# Altium integrated library Linear Technology PMIC-Switching Reg LTC1174-LTC3901.IntLib: 2647 symbols (part 299 of 310)
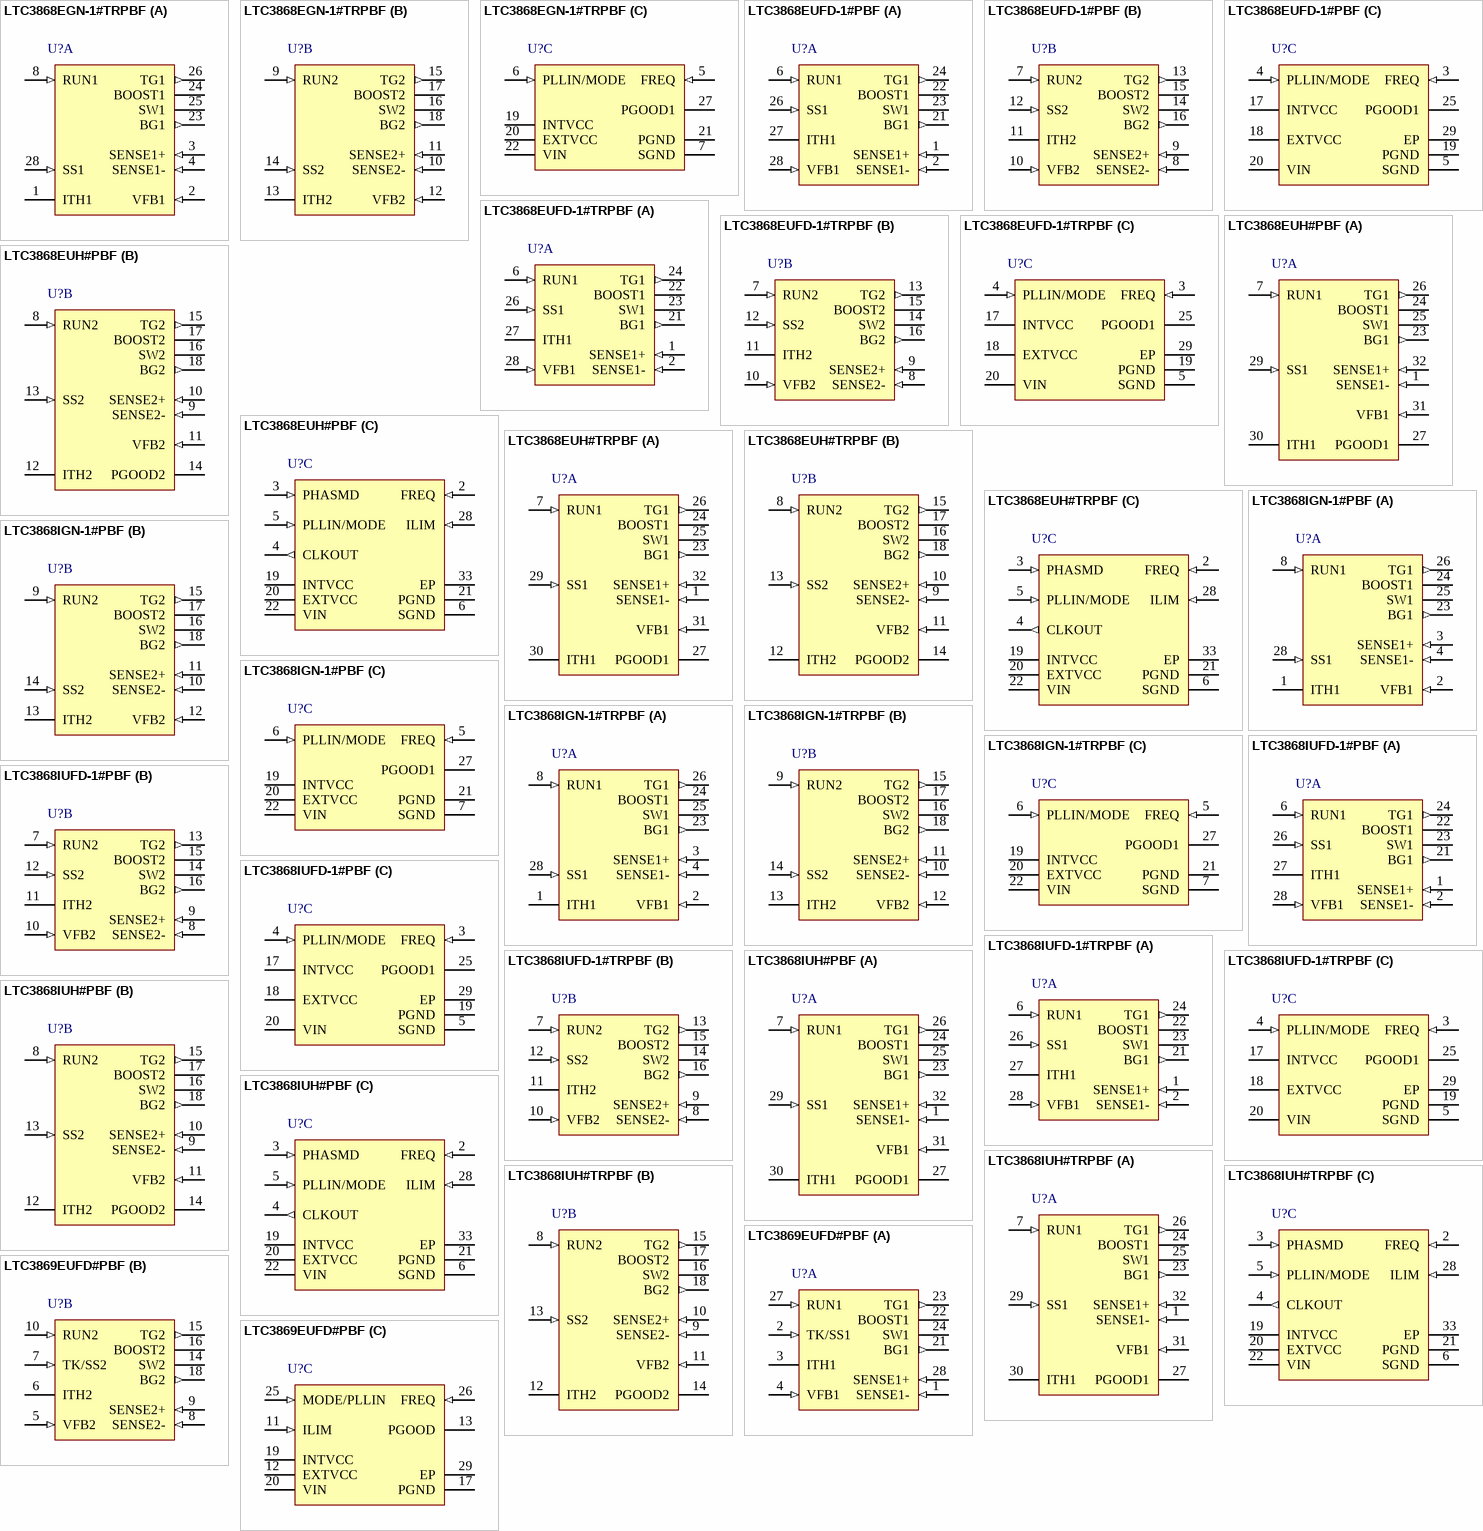
[diagram p297: symbols LTC3868EGN-1#TRPBF to LTC3869EUFD#PBF]

## LTC3868EUH#TRPBF
designator U?
Low IQ, Dual 2-Phase Synchronous Step-Down Controller, 32-pin QFN (UH-32), -40 to 85 degC, Pb-Free, Tape and Reel; Manufacturer: Linear Technology; PartNumber: LTC3868EUH#TRPBF; Number of Outputs: 2; PackageReference: UH-32; PackageDescription: 32-Pin Plastic QFN, Body 5 x 5 mm, Pitch 0.5 mm; Supplier 1: Digi-Key; Supplier Part Number 1: LTC3868EUH#TRPBF-ND; RoHS: TRUE; Code_JEDEC: MO-220
footprint LT-UH-32_N (QFN, 32-Leads, Body 5.1x5.1mm, Pitch 0.5mm, Thermal Pad 3.45X3.45mm, IPC Medium Density)
footprint LT-UH-32_L (QFN, 32-Leads, Body 5.1x5.1mm, Pitch 0.5mm, Thermal Pad 3.45X3.45mm, IPC High Density)
footprint LT-UH-32_M (QFN, 32-Leads, Body 5.1x5.1mm, Pitch 0.5mm, Thermal Pad 3.45X3.45mm, IPC Low Density)
part A pins: 1 SENSE1- (in) "The (-) Input to the Differential Current Comparators. When greater than INTVCC - 0.5V, the SENSE- pin supplies current to the current comparator.", 7 RUN1 (in), 23 BG1 (out) "High Current Gate Drives for Bottom (Synchronous) N-Channel MOSFETs. Voltage swing at these pins is from ground to INTVCC.", 24 BOOST1 "Bootstrapped Supplies to the Topside Floating Drivers. Capacitors are connected between the BOOST and SW pins and Schottky diodes are tied between the BOOST and INTVCC pins. Voltage swing at the BOOST pins is from INTVCC to (See Datasheet)", 25 SW1 "Switch Node Connections to Inductors.", 26 TG1 (out) "High Current Gate Drives for Top N-Channel MOSFETs. These are the outputs of floating drivers with a voltage swing equal to INTVCC - 0.5V superimposed on the switch node voltage SW.", 27 PGOOD1 (oc) "Open-Drain Logic Output. PGOOD1,2 is pulled to ground when the voltage on the VFB1,2 pin is not within +/-10% ofits set point.", 29 SS1 (in), 30 ITH1 "Error Amplifier Outputs and Switching Regulator Compensation Points. Each associated channel’s current comparator trip point increases with this control voltage.", 31 VFB1 (in) "Receives the remotely sensed feedback voltage for each controller from an external resistive divider across the output.", 32 SENSE1+ (in)
part B pins: 8 RUN2 (in), 9 SENSE2- (in) "The (-) Input to the Differential Current Comparators. When greater than INTVCC - 0.5V, the SENSE- pin supplies current to the current comparator.", 10 SENSE2+ (in), 11 VFB2 (in) "Receives the remotely sensed feedback voltage for each controller from an external resistive divider across the output.", 12 ITH2 "Error Amplifier Outputs and Switching Regulator Compensation Points. Each associated channel’s current comparator trip point increases with this control voltage.", 13 SS2 (in), 14 PGOOD2 (oc) "Open-Drain Logic Output. PGOOD1,2 is pulled to ground when the voltage on the VFB1,2 pin is not within +/-10% ofits set point.", 15 TG2 (out) "High Current Gate Drives for Top N-Channel MOSFETs. These are the outputs of floating drivers with a voltage swing equal to INTVCC - 0.5V superimposed on the switch node voltage SW.", 16 SW2 "Switch Node Connections to Inductors.", 17 BOOST2 "Bootstrapped Supplies to the Topside Floating Drivers. Capacitors are connected between the BOOST and SW pins and Schottky diodes are tied between the BOOST and INTVCC pins. Voltage swing at the BOOST pins is from INTVCC to (See Datasheet)", 18 BG2 (out) "High Current Gate Drives for Bottom (Synchronous) N-Channel MOSFETs. Voltage swing at these pins is from ground to INTVCC."
part C pins: 2 FREQ (in), 3 PHASMD (in) "Control input to phase selector which determines the phase relationships between controller 1, controller 2 and the CLKOUT signal. Pulling this pin to ground forces TG2 and CLKOUT to be out of phase 180degrees and 60degrees (See Datasheet)", 4 CLKOUT (out) "Output clock signal available to daisychain other controller ICs for additional MOSFET driver stages/phases. The output levels swing from INTVCC to ground.", 5 PLLIN/MODE (in), 6 SGND (power) "Small-signal ground common to both controllers, must be routed separately from high current grounds to the common (-) terminals of the CIN capacitors. The exposed pad must be soldered to the PCB for rated thermal performance.", 19 INTVCC (power) "Output of the Internal Linear Low Dropout Regulator. The driver and control circuits are powered from this voltage source. Must be decoupled to power ground with a minimum of 4.7uF ceramic or other low ESR capacitor. Do not (See Datasheet)", 20 EXTVCC (power) "External Power Input to an Internal LDO Connected to INTVCC. This LDO supplies INTVCC power, bypassing the internal LDO powered from VIN whenever EXTVCC is higher than 4.7V. See EXTVCC Connection in the Applications (See Datasheet)", 21 PGND (power) "Driver Power Ground. Connects to the sources of bottom (synchronous) N-channel MOSFETs and the (-) terminal(s) of CIN.", 22 VIN (power), 28 ILIM (in) "Current Comparator Sense Voltage Range Inputs. Tying this pin to SGND, FLOAT or INTVCC sets the maximum current sense threshold to one of three different levels for both comparators.", 33 EP (power)

## LTC3868IGN-1#PBF
designator U?
Low IQ, Dual 2-Phase Synchronous Step-Down Controller, 28-pin SOP (GN-28), -40 to 85 degC, Pb-Free; Manufacturer: Linear Technology; PartNumber: LTC3868IGN-1#PBF; Number of Outputs: 2; PackageReference: GN-28; PackageDescription: 28-Pin Plastic SSOP, Body 9.9 x 3.9 mm, Pitch 0.635 mm; Supplier 1: Digi-Key; Supplier Part Number 1: LTC3868IGN-1#PBF-ND; RoHS: TRUE
footprint LT-GN-28_N (SOP, 28-Leads, Body 9.98x3.98mm, Pitch 0.635mm, IPC Medium Density)
footprint LT-GN-28_L (SOP, 28-Leads, Body 9.98x3.98mm, Pitch 0.635mm, IPC High Density)
footprint LT-GN-28_M (SOP, 28-Leads, Body 9.98x3.98mm, Pitch 0.635mm, IPC Low Density)
part A pins: 1 ITH1 "Error Amplifier Outputs and Switching Regulator Compensation Points. Each associated channel’s current comparator trip point increases with this control voltage.", 2 VFB1 (in) "Receives the remotely sensed feedback voltage for each controller from an external resistive divider across the output.", 3 SENSE1+ (in) "The (+) input to the differential current comparators are normally connected to DCR sensing networks or current sensing resistors. The ITH pin voltage and controlled offsets between the SENSE- and SENSE+ pins in conjunction (See Datasheet)", 4 SENSE1- (in) "The (-) Input to the Differential Current Comparators. When greater than INTVCC - 0.5V, the SENSE- pin supplies current to the current comparator.", 8 RUN1 (in) "Digital Run Control Inputs for Each Controller. Forcing either of these pins below 1.26V shuts down that controller. Forcing both of these pins below 0.7V shuts down the entire LTC3868-1, reducing quiescent current to (See Datasheet)", 23 BG1 (out) "High Current Gate Drives for Bottom (Synchronous) N-Channel MOSFETs. Voltage swing at these pins is from ground to INTVCC.", 24 BOOST1 "Bootstrapped Supplies to the Topside Floating Drivers. Capacitors are connected between the BOOST and SW pins and Schottky diodes are tied between the BOOST and INTVCC pins. Voltage swing at the BOOST pins is from INTVCC to (See Datasheet)", 25 SW1 "Switch Node Connections to Inductors.", 26 TG1 (out) "High Current Gate Drives for Top N-Channel MOSFETs. These are the outputs of floating drivers with a voltage swing equal to INTVCC - 0.5V superimposed on the switch node voltage SW.", 28 SS1 (in) "External Soft-Start Input. The LTC3868-1 regulates the VFB1,2 voltage to the smaller of 0.8V or the voltage on the SS1,2 pin. An internal 1uA pull-up current source is connected to this pin. A capacitor to ground at this pin (See Datasheet)"
part B pins: 9 RUN2 (in) "Digital Run Control Inputs for Each Controller. Forcing either of these pins below 1.26V shuts down that controller. Forcing both of these pins below 0.7V shuts down the entire LTC3868-1, reducing quiescent current to (See Datasheet)", 10 SENSE2- (in) "The (-) Input to the Differential Current Comparators. When greater than INTVCC - 0.5V, the SENSE- pin supplies current to the current comparator.", 11 SENSE2+ (in) "The (+) input to the differential current comparators are normally connected to DCR sensing networks or current sensing resistors. The ITH pin voltage and controlled offsets between the SENSE- and SENSE+ pins in conjunction (See Datasheet)", 12 VFB2 (in) "Receives the remotely sensed feedback voltage for each controller from an external resistive divider across the output.", 13 ITH2 "Error Amplifier Outputs and Switching Regulator Compensation Points. Each associated channel’s current comparator trip point increases with this control voltage.", 14 SS2 (in) "External Soft-Start Input. The LTC3868-1 regulates the VFB1,2 voltage to the smaller of 0.8V or the voltage on the SS1,2 pin. An internal 1uA pull-up current source is connected to this pin. A capacitor to ground at this pin (See Datasheet)", 15 TG2 (out) "High Current Gate Drives for Top N-Channel MOSFETs. These are the outputs of floating drivers with a voltage swing equal to INTVCC - 0.5V superimposed on the switch node voltage SW.", 16 SW2 "Switch Node Connections to Inductors.", 17 BOOST2 "Bootstrapped Supplies to the Topside Floating Drivers. Capacitors are connected between the BOOST and SW pins and Schottky diodes are tied between the BOOST and INTVCC pins. Voltage swing at the BOOST pins is from INTVCC to (See Datasheet)", 18 BG2 (out) "High Current Gate Drives for Bottom (Synchronous) N-Channel MOSFETs. Voltage swing at these pins is from ground to INTVCC."
part C pins: 5 FREQ (in) "The Frequency Control Pin for the Internal VCO. Connecting this pin to GND forces the VCO to a fixed low frequency of 350kHz. Connecting this pin to INTVCC forces the VCO to a fixed high frequency of 535kHz. Other (See Datasheet)", 6 PLLIN/MODE (in) "External Synchronization Input to Phase Detector and Forced Continuous Mode Input. When an external clock is applied to this pin, the phase-locked loop will force the rising TG1 signal to be synchronized with the rising edge (See Datasheet)", 7 SGND (power) "Small-signal ground common to both controllers, must be routed separately from high current grounds to the common (-) terminals of the CIN capacitors. The exposed pad (QFN only) must be soldered to the PCB for rated thermal (See Datasheet)", 19 INTVCC (power) "Output of the Internal Linear Low Dropout Regulator. The driver and control circuits are powered from this voltage source. Must be decoupled to power ground with a minimum of 4.7uF ceramic or other low ESR capacitor. Do not (See Datasheet)", 20 EXTVCC (power) "External Power Input to an Internal LDO Connected to INTVCC. This LDO supplies INTVCC power, bypassing the internal LDO powered from VIN whenever EXTVCC is higher than 4.7V. See EXTVCC Connection in the Applications (See Datasheet)", 21 PGND (power) "Driver Power Ground. Connects to the sources of bottom (synchronous) N-channel MOSFETs and the (-) terminal(s) of CIN.", 22 VIN (power) "Main Supply Pin. A bypass capacitor should be tied between this pin and the signal ground pin.", 27 PGOOD1 (oc) "Open-Drain Logic Output. PGOOD1 is pulled to ground when the voltage on the VFB1 pin is not within +/-10% of its set point."

## LTC3868IGN-1#TRPBF
designator U?
Low IQ, Dual 2-Phase Synchronous Step-Down Controller, 28-pin SOP (GN-28), -40 to 85 degC, Pb-Free, Tape and Reel; Manufacturer: Linear Technology; PartNumber: LTC3868IGN-1#TRPBF; Number of Outputs: 2; PackageReference: GN-28; PackageDescription: 28-Pin Plastic SSOP, Body 9.9 x 3.9 mm, Pitch 0.635 mm; Supplier 1: Digi-Key; Supplier Part Number 1: LTC3868IGN-1#TRPBF-ND; RoHS: TRUE
footprint LT-GN-28_N (SOP, 28-Leads, Body 9.98x3.98mm, Pitch 0.635mm, IPC Medium Density)
footprint LT-GN-28_L (SOP, 28-Leads, Body 9.98x3.98mm, Pitch 0.635mm, IPC High Density)
footprint LT-GN-28_M (SOP, 28-Leads, Body 9.98x3.98mm, Pitch 0.635mm, IPC Low Density)
part A pins: 1 ITH1 "Error Amplifier Outputs and Switching Regulator Compensation Points. Each associated channel’s current comparator trip point increases with this control voltage.", 2 VFB1 (in) "Receives the remotely sensed feedback voltage for each controller from an external resistive divider across the output.", 3 SENSE1+ (in) "The (+) input to the differential current comparators are normally connected to DCR sensing networks or current sensing resistors. The ITH pin voltage and controlled offsets between the SENSE- and SENSE+ pins in conjunction (See Datasheet)", 4 SENSE1- (in) "The (-) Input to the Differential Current Comparators. When greater than INTVCC - 0.5V, the SENSE- pin supplies current to the current comparator.", 8 RUN1 (in) "Digital Run Control Inputs for Each Controller. Forcing either of these pins below 1.26V shuts down that controller. Forcing both of these pins below 0.7V shuts down the entire LTC3868-1, reducing quiescent current to (See Datasheet)", 23 BG1 (out) "High Current Gate Drives for Bottom (Synchronous) N-Channel MOSFETs. Voltage swing at these pins is from ground to INTVCC.", 24 BOOST1 "Bootstrapped Supplies to the Topside Floating Drivers. Capacitors are connected between the BOOST and SW pins and Schottky diodes are tied between the BOOST and INTVCC pins. Voltage swing at the BOOST pins is from INTVCC to (See Datasheet)", 25 SW1 "Switch Node Connections to Inductors.", 26 TG1 (out) "High Current Gate Drives for Top N-Channel MOSFETs. These are the outputs of floating drivers with a voltage swing equal to INTVCC - 0.5V superimposed on the switch node voltage SW.", 28 SS1 (in) "External Soft-Start Input. The LTC3868-1 regulates the VFB1,2 voltage to the smaller of 0.8V or the voltage on the SS1,2 pin. An internal 1uA pull-up current source is connected to this pin. A capacitor to ground at this pin (See Datasheet)"
part B pins: 9 RUN2 (in) "Digital Run Control Inputs for Each Controller. Forcing either of these pins below 1.26V shuts down that controller. Forcing both of these pins below 0.7V shuts down the entire LTC3868-1, reducing quiescent current to (See Datasheet)", 10 SENSE2- (in) "The (-) Input to the Differential Current Comparators. When greater than INTVCC - 0.5V, the SENSE- pin supplies current to the current comparator.", 11 SENSE2+ (in) "The (+) input to the differential current comparators are normally connected to DCR sensing networks or current sensing resistors. The ITH pin voltage and controlled offsets between the SENSE- and SENSE+ pins in conjunction (See Datasheet)", 12 VFB2 (in) "Receives the remotely sensed feedback voltage for each controller from an external resistive divider across the output.", 13 ITH2 "Error Amplifier Outputs and Switching Regulator Compensation Points. Each associated channel’s current comparator trip point increases with this control voltage.", 14 SS2 (in) "External Soft-Start Input. The LTC3868-1 regulates the VFB1,2 voltage to the smaller of 0.8V or the voltage on the SS1,2 pin. An internal 1uA pull-up current source is connected to this pin. A capacitor to ground at this pin (See Datasheet)", 15 TG2 (out) "High Current Gate Drives for Top N-Channel MOSFETs. These are the outputs of floating drivers with a voltage swing equal to INTVCC - 0.5V superimposed on the switch node voltage SW.", 16 SW2 "Switch Node Connections to Inductors.", 17 BOOST2 "Bootstrapped Supplies to the Topside Floating Drivers. Capacitors are connected between the BOOST and SW pins and Schottky diodes are tied between the BOOST and INTVCC pins. Voltage swing at the BOOST pins is from INTVCC to (See Datasheet)", 18 BG2 (out) "High Current Gate Drives for Bottom (Synchronous) N-Channel MOSFETs. Voltage swing at these pins is from ground to INTVCC."
part C pins: 5 FREQ (in) "The Frequency Control Pin for the Internal VCO. Connecting this pin to GND forces the VCO to a fixed low frequency of 350kHz. Connecting this pin to INTVCC forces the VCO to a fixed high frequency of 535kHz. Other (See Datasheet)", 6 PLLIN/MODE (in) "External Synchronization Input to Phase Detector and Forced Continuous Mode Input. When an external clock is applied to this pin, the phase-locked loop will force the rising TG1 signal to be synchronized with the rising edge (See Datasheet)", 7 SGND (power) "Small-signal ground common to both controllers, must be routed separately from high current grounds to the common (-) terminals of the CIN capacitors. The exposed pad (QFN only) must be soldered to the PCB for rated thermal (See Datasheet)", 19 INTVCC (power) "Output of the Internal Linear Low Dropout Regulator. The driver and control circuits are powered from this voltage source. Must be decoupled to power ground with a minimum of 4.7uF ceramic or other low ESR capacitor. Do not (See Datasheet)", 20 EXTVCC (power) "External Power Input to an Internal LDO Connected to INTVCC. This LDO supplies INTVCC power, bypassing the internal LDO powered from VIN whenever EXTVCC is higher than 4.7V. See EXTVCC Connection in the Applications (See Datasheet)", 21 PGND (power) "Driver Power Ground. Connects to the sources of bottom (synchronous) N-channel MOSFETs and the (-) terminal(s) of CIN.", 22 VIN (power) "Main Supply Pin. A bypass capacitor should be tied between this pin and the signal ground pin.", 27 PGOOD1 (oc) "Open-Drain Logic Output. PGOOD1 is pulled to ground when the voltage on the VFB1 pin is not within +/-10% of its set point."

## LTC3868IUFD-1#PBF
designator U?
Low IQ, Dual 2-Phase Synchronous Step-Down Controller, 28-pin QFN (UFD-28), -40 to 85 degC, Pb-Free; Manufacturer: Linear Technology; PartNumber: LTC3868IUFD-1#PBF; Number of Outputs: 2; PackageReference: UFD-28; PackageDescription: 28-Pin Plastic QFN, Body 5 x 4 mm, Pitch 0.5 mm; Supplier 1: Digi-Key; Supplier Part Number 1: LTC3868IUFD-1#PBF-ND; RoHS: TRUE; Code_JEDEC: MO-220
footprint LT-UFD-28_N (QFN, 28-Leads, Body 5.1x4.1mm, Pitch 0.5mm, Thermal Pad 3.65x2.65mm, IPC Medium Density)
footprint LT-UFD-28_L (QFN, 28-Leads, Body 5.1x4.1mm, Pitch 0.5mm, Thermal Pad 3.65x2.65mm, IPC High Density)
footprint LT-UFD-28_M (QFN, 28-Leads, Body 5.1x4.1mm, Pitch 0.5mm, Thermal Pad 3.65x2.65mm, IPC Low Density)
part A pins: 1 SENSE1+ (in), 2 SENSE1- (in) "The (-) Input to the Differential Current Comparators. When greater than INTVCC - 0.5V, the SENSE- pin supplies current to the current comparator.", 6 RUN1 (in) "Digital Run Control Inputs for Each Controller.", 21 BG1 (out) "High Current Gate Drives for Bottom (Synchronous) N-Channel MOSFETs. Voltage swing at these pins is from ground to INTVCC.", 22 BOOST1 "Bootstrapped Supplies to the Topside Floating Drivers. Capacitors are connected between the BOOST and SW pins and Schottky diodes are tied between the BOOST and INTVCCpins. Voltage swing at the BOOST pins is from INTVCC to (See Datasheet)", 23 SW1 "Switch Node Connections to Inductors.", 24 TG1 (out) "High Current Gate Drives for Top N-Channel MOSFETs. These are the outputs of floating drivers with a voltage swing equal to INTVCC - 0.5V superimposed on the switch node voltage SW.", 26 SS1 (in) "External Soft-Start Input.", 27 ITH1 "Error Amplifier Outputs and Switching Regulator Compensation Points. Each associated channel’s current comparator trip point increases with this control voltage.", 28 VFB1 (in) "Receives the remotely sensed feedback voltage for each controller from an external resistive divider across the output."
part B pins: 7 RUN2 (in) "Digital Run Control Inputs for Each Controller.", 8 SENSE2- (in) "The (-) Input to the Differential Current Comparators. When greater than INTVCC - 0.5V, the SENSE- pin supplies current to the current comparator.", 9 SENSE2+ (in), 10 VFB2 (in) "Receives the remotely sensed feedback voltage for each controller from an external resistive divider across the output.", 11 ITH2 "Error Amplifier Outputs and Switching Regulator Compensation Points. Each associated channel’s current comparator trip point increases with this control voltage.", 12 SS2 (in) "External SoftStart Input.", 13 TG2 (out) "High Current Gate Drives for Top N-Channel MOSFETs. These are the outputs of floating drivers with a voltage swing equal to INTVCC - 0.5V superimposed on the switch node voltage SW.", 14 SW2 "Switch Node Connections to Inductors.", 15 BOOST2 "Bootstrapped Supplies to the Topside Floating Drivers. Capacitors are connected between the BOOST and SW pins and Schottky diodes are tied between the BOOST and INTVCCpins. Voltage swing at the BOOST pins is from INTVCC to (See Datasheet)", 16 BG2 (out) "High Current Gate Drives for Bottom (Synchronous) N-Channel MOSFETs. Voltage swing at these pins is from ground to INTVCC."
part C pins: 3 FREQ (in), 4 PLLIN/MODE (in) "External Synchronization Input to Phase Detector and Forced Continuous Mode Input.", 5 SGND (power) "Small-signal ground common to both controllers, must be routed separately from high current grounds to the common (-) terminals of the CIN capacitors. The exposed pad (QFN only) must be soldered to the PCB for rated thermal (See Datasheet)", 17 INTVCC (power) "Output of the Internal Linear Low Dropout Regulator. The driver and control circuits are powered from this voltage source. Must be decoupled to power ground with a minimum of 4.7uF ceramic or other low ESR capacitor. Do not (See Datasheet)", 18 EXTVCC (power) "External Power Input to an Internal LDO Connected to INTVCC. This LDO supplies INTVCC power, bypassing the internal LDO powered from VIN whenever EXTVCC is higher than 4.7V. See EXTVCC Connection in the Applications (See Datasheet)", 19 PGND (power) "Driver Power Ground. Connects to the sources of bottom (synchronous) N-channel MOSFETs and the (-) terminal(s) of CIN.", 20 VIN (power), 25 PGOOD1 (oc) "Open-Drain Logic Output. PGOOD1 is pulled to ground when the voltage on the VFB1 pin is not within +/-10% of its set point.", 29 EP (power) "Small-signal ground common to both controllers, must be routed separately from high current grounds to the common (-) terminals of the CIN capacitors. The exposed pad (QFN only) must be soldered to the PCB for rated thermal (See Datasheet)"

## LTC3868IUFD-1#TRPBF
designator U?
Low IQ, Dual 2-Phase Synchronous Step-Down Controller, 28-pin QFN (UFD-28), -40 to 85 degC, Pb-Free, Tape and Reel; Manufacturer: Linear Technology; PartNumber: LTC3868IUFD-1#TRPBF; Number of Outputs: 2; PackageReference: UFD-28; PackageDescription: 28-Pin Plastic QFN, Body 5 x 4 mm, Pitch 0.5 mm; Supplier 1: Digi-Key; Supplier Part Number 1: LTC3868IUFD-1#TRPBF-ND; RoHS: TRUE; Code_JEDEC: MO-220
footprint LT-UFD-28_N (QFN, 28-Leads, Body 5.1x4.1mm, Pitch 0.5mm, Thermal Pad 3.65x2.65mm, IPC Medium Density)
footprint LT-UFD-28_L (QFN, 28-Leads, Body 5.1x4.1mm, Pitch 0.5mm, Thermal Pad 3.65x2.65mm, IPC High Density)
footprint LT-UFD-28_M (QFN, 28-Leads, Body 5.1x4.1mm, Pitch 0.5mm, Thermal Pad 3.65x2.65mm, IPC Low Density)
part A pins: 1 SENSE1+ (in), 2 SENSE1- (in) "The (-) Input to the Differential Current Comparators. When greater than INTVCC - 0.5V, the SENSE- pin supplies current to the current comparator.", 6 RUN1 (in) "Digital Run Control Inputs for Each Controller.", 21 BG1 (out) "High Current Gate Drives for Bottom (Synchronous) N-Channel MOSFETs. Voltage swing at these pins is from ground to INTVCC.", 22 BOOST1 "Bootstrapped Supplies to the Topside Floating Drivers. Capacitors are connected between the BOOST and SW pins and Schottky diodes are tied between the BOOST and INTVCCpins. Voltage swing at the BOOST pins is from INTVCC to (See Datasheet)", 23 SW1 "Switch Node Connections to Inductors.", 24 TG1 (out) "High Current Gate Drives for Top N-Channel MOSFETs. These are the outputs of floating drivers with a voltage swing equal to INTVCC - 0.5V superimposed on the switch node voltage SW.", 26 SS1 (in) "External Soft-Start Input.", 27 ITH1 "Error Amplifier Outputs and Switching Regulator Compensation Points. Each associated channel’s current comparator trip point increases with this control voltage.", 28 VFB1 (in) "Receives the remotely sensed feedback voltage for each controller from an external resistive divider across the output."
part B pins: 7 RUN2 (in) "Digital Run Control Inputs for Each Controller.", 8 SENSE2- (in) "The (-) Input to the Differential Current Comparators. When greater than INTVCC - 0.5V, the SENSE- pin supplies current to the current comparator.", 9 SENSE2+ (in), 10 VFB2 (in) "Receives the remotely sensed feedback voltage for each controller from an external resistive divider across the output.", 11 ITH2 "Error Amplifier Outputs and Switching Regulator Compensation Points. Each associated channel’s current comparator trip point increases with this control voltage.", 12 SS2 (in) "External SoftStart Input.", 13 TG2 (out) "High Current Gate Drives for Top N-Channel MOSFETs. These are the outputs of floating drivers with a voltage swing equal to INTVCC - 0.5V superimposed on the switch node voltage SW.", 14 SW2 "Switch Node Connections to Inductors.", 15 BOOST2 "Bootstrapped Supplies to the Topside Floating Drivers. Capacitors are connected between the BOOST and SW pins and Schottky diodes are tied between the BOOST and INTVCCpins. Voltage swing at the BOOST pins is from INTVCC to (See Datasheet)", 16 BG2 (out) "High Current Gate Drives for Bottom (Synchronous) N-Channel MOSFETs. Voltage swing at these pins is from ground to INTVCC."
part C pins: 3 FREQ (in), 4 PLLIN/MODE (in) "External Synchronization Input to Phase Detector and Forced Continuous Mode Input.", 5 SGND (power) "Small-signal ground common to both controllers, must be routed separately from high current grounds to the common (-) terminals of the CIN capacitors. The exposed pad (QFN only) must be soldered to the PCB for rated thermal (See Datasheet)", 17 INTVCC (power) "Output of the Internal Linear Low Dropout Regulator. The driver and control circuits are powered from this voltage source. Must be decoupled to power ground with a minimum of 4.7uF ceramic or other low ESR capacitor. Do not (See Datasheet)", 18 EXTVCC (power) "External Power Input to an Internal LDO Connected to INTVCC. This LDO supplies INTVCC power, bypassing the internal LDO powered from VIN whenever EXTVCC is higher than 4.7V. See EXTVCC Connection in the Applications (See Datasheet)", 19 PGND (power) "Driver Power Ground. Connects to the sources of bottom (synchronous) N-channel MOSFETs and the (-) terminal(s) of CIN.", 20 VIN (power), 25 PGOOD1 (oc) "Open-Drain Logic Output. PGOOD1 is pulled to ground when the voltage on the VFB1 pin is not within +/-10% of its set point.", 29 EP (power) "Small-signal ground common to both controllers, must be routed separately from high current grounds to the common (-) terminals of the CIN capacitors. The exposed pad (QFN only) must be soldered to the PCB for rated thermal (See Datasheet)"

## LTC3868IUH#PBF
designator U?
Low IQ, Dual 2-Phase Synchronous Step-Down Controller, 32-pin QFN (UH-32), -40 to 85 degC, Pb-Free; Manufacturer: Linear Technology; PartNumber: LTC3868IUH#PBF; Number of Outputs: 2; PackageReference: UH-32; PackageDescription: 32-Pin Plastic QFN, Body 5 x 5 mm, Pitch 0.5 mm; Supplier 1: Digi-Key; Supplier Part Number 1: LTC3868IUH#PBF-ND; RoHS: TRUE; Code_JEDEC: MO-220
footprint LT-UH-32_N (QFN, 32-Leads, Body 5.1x5.1mm, Pitch 0.5mm, Thermal Pad 3.45X3.45mm, IPC Medium Density)
footprint LT-UH-32_L (QFN, 32-Leads, Body 5.1x5.1mm, Pitch 0.5mm, Thermal Pad 3.45X3.45mm, IPC High Density)
footprint LT-UH-32_M (QFN, 32-Leads, Body 5.1x5.1mm, Pitch 0.5mm, Thermal Pad 3.45X3.45mm, IPC Low Density)
part A pins: 1 SENSE1- (in) "The (-) Input to the Differential Current Comparators. When greater than INTVCC - 0.5V, the SENSE- pin supplies current to the current comparator.", 7 RUN1 (in), 23 BG1 (out) "High Current Gate Drives for Bottom (Synchronous) N-Channel MOSFETs. Voltage swing at these pins is from ground to INTVCC.", 24 BOOST1 "Bootstrapped Supplies to the Topside Floating Drivers. Capacitors are connected between the BOOST and SW pins and Schottky diodes are tied between the BOOST and INTVCC pins. Voltage swing at the BOOST pins is from INTVCC to (See Datasheet)", 25 SW1 "Switch Node Connections to Inductors.", 26 TG1 (out) "High Current Gate Drives for Top N-Channel MOSFETs. These are the outputs of floating drivers with a voltage swing equal to INTVCC - 0.5V superimposed on the switch node voltage SW.", 27 PGOOD1 (oc) "Open-Drain Logic Output. PGOOD1,2 is pulled to ground when the voltage on the VFB1,2 pin is not within +/-10% ofits set point.", 29 SS1 (in), 30 ITH1 "Error Amplifier Outputs and Switching Regulator Compensation Points. Each associated channel’s current comparator trip point increases with this control voltage.", 31 VFB1 (in) "Receives the remotely sensed feedback voltage for each controller from an external resistive divider across the output.", 32 SENSE1+ (in)
part B pins: 8 RUN2 (in), 9 SENSE2- (in) "The (-) Input to the Differential Current Comparators. When greater than INTVCC - 0.5V, the SENSE- pin supplies current to the current comparator.", 10 SENSE2+ (in), 11 VFB2 (in) "Receives the remotely sensed feedback voltage for each controller from an external resistive divider across the output.", 12 ITH2 "Error Amplifier Outputs and Switching Regulator Compensation Points. Each associated channel’s current comparator trip point increases with this control voltage.", 13 SS2 (in), 14 PGOOD2 (oc) "Open-Drain Logic Output. PGOOD1,2 is pulled to ground when the voltage on the VFB1,2 pin is not within +/-10% ofits set point.", 15 TG2 (out) "High Current Gate Drives for Top N-Channel MOSFETs. These are the outputs of floating drivers with a voltage swing equal to INTVCC - 0.5V superimposed on the switch node voltage SW.", 16 SW2 "Switch Node Connections to Inductors.", 17 BOOST2 "Bootstrapped Supplies to the Topside Floating Drivers. Capacitors are connected between the BOOST and SW pins and Schottky diodes are tied between the BOOST and INTVCC pins. Voltage swing at the BOOST pins is from INTVCC to (See Datasheet)", 18 BG2 (out) "High Current Gate Drives for Bottom (Synchronous) N-Channel MOSFETs. Voltage swing at these pins is from ground to INTVCC."
part C pins: 2 FREQ (in), 3 PHASMD (in) "Control input to phase selector which determines the phase relationships between controller 1, controller 2 and the CLKOUT signal. Pulling this pin to ground forces TG2 and CLKOUT to be out of phase 180degrees and 60degrees (See Datasheet)", 4 CLKOUT (out) "Output clock signal available to daisychain other controller ICs for additional MOSFET driver stages/phases. The output levels swing from INTVCC to ground.", 5 PLLIN/MODE (in), 6 SGND (power) "Small-signal ground common to both controllers, must be routed separately from high current grounds to the common (-) terminals of the CIN capacitors. The exposed pad must be soldered to the PCB for rated thermal performance.", 19 INTVCC (power) "Output of the Internal Linear Low Dropout Regulator. The driver and control circuits are powered from this voltage source. Must be decoupled to power ground with a minimum of 4.7uF ceramic or other low ESR capacitor. Do not (See Datasheet)", 20 EXTVCC (power) "External Power Input to an Internal LDO Connected to INTVCC. This LDO supplies INTVCC power, bypassing the internal LDO powered from VIN whenever EXTVCC is higher than 4.7V. See EXTVCC Connection in the Applications (See Datasheet)", 21 PGND (power) "Driver Power Ground. Connects to the sources of bottom (synchronous) N-channel MOSFETs and the (-) terminal(s) of CIN.", 22 VIN (power), 28 ILIM (in) "Current Comparator Sense Voltage Range Inputs. Tying this pin to SGND, FLOAT or INTVCC sets the maximum current sense threshold to one of three different levels for both comparators.", 33 EP (power)

## LTC3868IUH#TRPBF
designator U?
Low IQ, Dual 2-Phase Synchronous Step-Down Controller, 32-pin QFN (UH-32), -40 to 85 degC, Pb-Free, Tape and Reel; Manufacturer: Linear Technology; PartNumber: LTC3868IUH#TRPBF; Number of Outputs: 2; PackageReference: UH-32; PackageDescription: 32-Pin Plastic QFN, Body 5 x 5 mm, Pitch 0.5 mm; Supplier 1: Digi-Key; Supplier Part Number 1: LTC3868IUH#TRPBF-ND; RoHS: TRUE; Code_JEDEC: MO-220
footprint LT-UH-32_N (QFN, 32-Leads, Body 5.1x5.1mm, Pitch 0.5mm, Thermal Pad 3.45X3.45mm, IPC Medium Density)
footprint LT-UH-32_L (QFN, 32-Leads, Body 5.1x5.1mm, Pitch 0.5mm, Thermal Pad 3.45X3.45mm, IPC High Density)
footprint LT-UH-32_M (QFN, 32-Leads, Body 5.1x5.1mm, Pitch 0.5mm, Thermal Pad 3.45X3.45mm, IPC Low Density)
part A pins: 1 SENSE1- (in) "The (-) Input to the Differential Current Comparators. When greater than INTVCC - 0.5V, the SENSE- pin supplies current to the current comparator.", 7 RUN1 (in), 23 BG1 (out) "High Current Gate Drives for Bottom (Synchronous) N-Channel MOSFETs. Voltage swing at these pins is from ground to INTVCC.", 24 BOOST1 "Bootstrapped Supplies to the Topside Floating Drivers. Capacitors are connected between the BOOST and SW pins and Schottky diodes are tied between the BOOST and INTVCC pins. Voltage swing at the BOOST pins is from INTVCC to (See Datasheet)", 25 SW1 "Switch Node Connections to Inductors.", 26 TG1 (out) "High Current Gate Drives for Top N-Channel MOSFETs. These are the outputs of floating drivers with a voltage swing equal to INTVCC - 0.5V superimposed on the switch node voltage SW.", 27 PGOOD1 (oc) "Open-Drain Logic Output. PGOOD1,2 is pulled to ground when the voltage on the VFB1,2 pin is not within +/-10% ofits set point.", 29 SS1 (in), 30 ITH1 "Error Amplifier Outputs and Switching Regulator Compensation Points. Each associated channel’s current comparator trip point increases with this control voltage.", 31 VFB1 (in) "Receives the remotely sensed feedback voltage for each controller from an external resistive divider across the output.", 32 SENSE1+ (in)
part B pins: 8 RUN2 (in), 9 SENSE2- (in) "The (-) Input to the Differential Current Comparators. When greater than INTVCC - 0.5V, the SENSE- pin supplies current to the current comparator.", 10 SENSE2+ (in), 11 VFB2 (in) "Receives the remotely sensed feedback voltage for each controller from an external resistive divider across the output.", 12 ITH2 "Error Amplifier Outputs and Switching Regulator Compensation Points. Each associated channel’s current comparator trip point increases with this control voltage.", 13 SS2 (in), 14 PGOOD2 (oc) "Open-Drain Logic Output. PGOOD1,2 is pulled to ground when the voltage on the VFB1,2 pin is not within +/-10% ofits set point.", 15 TG2 (out) "High Current Gate Drives for Top N-Channel MOSFETs. These are the outputs of floating drivers with a voltage swing equal to INTVCC - 0.5V superimposed on the switch node voltage SW.", 16 SW2 "Switch Node Connections to Inductors.", 17 BOOST2 "Bootstrapped Supplies to the Topside Floating Drivers. Capacitors are connected between the BOOST and SW pins and Schottky diodes are tied between the BOOST and INTVCC pins. Voltage swing at the BOOST pins is from INTVCC to (See Datasheet)", 18 BG2 (out) "High Current Gate Drives for Bottom (Synchronous) N-Channel MOSFETs. Voltage swing at these pins is from ground to INTVCC."
part C pins: 2 FREQ (in), 3 PHASMD (in) "Control input to phase selector which determines the phase relationships between controller 1, controller 2 and the CLKOUT signal. Pulling this pin to ground forces TG2 and CLKOUT to be out of phase 180degrees and 60degrees (See Datasheet)", 4 CLKOUT (out) "Output clock signal available to daisychain other controller ICs for additional MOSFET driver stages/phases. The output levels swing from INTVCC to ground.", 5 PLLIN/MODE (in), 6 SGND (power) "Small-signal ground common to both controllers, must be routed separately from high current grounds to the common (-) terminals of the CIN capacitors. The exposed pad must be soldered to the PCB for rated thermal performance.", 19 INTVCC (power) "Output of the Internal Linear Low Dropout Regulator. The driver and control circuits are powered from this voltage source. Must be decoupled to power ground with a minimum of 4.7uF ceramic or other low ESR capacitor. Do not (See Datasheet)", 20 EXTVCC (power) "External Power Input to an Internal LDO Connected to INTVCC. This LDO supplies INTVCC power, bypassing the internal LDO powered from VIN whenever EXTVCC is higher than 4.7V. See EXTVCC Connection in the Applications (See Datasheet)", 21 PGND (power) "Driver Power Ground. Connects to the sources of bottom (synchronous) N-channel MOSFETs and the (-) terminal(s) of CIN.", 22 VIN (power), 28 ILIM (in) "Current Comparator Sense Voltage Range Inputs. Tying this pin to SGND, FLOAT or INTVCC sets the maximum current sense threshold to one of three different levels for both comparators.", 33 EP (power)

## LTC3869EUFD#PBF
designator U?
Dual, 2-Phase Synchronous Step-Down DC/DC Controller, 28-pin QFN (UFD-28), -40 to 125 degC, Pb-Free; Manufacturer: Linear Technology; PartNumber: LTC3869EUFD#PBF; Number of Outputs: 2; PackageReference: UFD-28; PackageDescription: 28-Pin Plastic QFN, Body 5 x 4 mm, Pitch 0.5 mm; Supplier 1: Digi-Key; Supplier Part Number 1: LTC3869EUFD#PBF-ND; RoHS: TRUE; Code_JEDEC: MO-220
footprint LT-UFD-28_N (QFN, 28-Leads, Body 5.1x4.1mm, Pitch 0.5mm, Thermal Pad 3.65x2.65mm, IPC Medium Density)
footprint LT-UFD-28_L (QFN, 28-Leads, Body 5.1x4.1mm, Pitch 0.5mm, Thermal Pad 3.65x2.65mm, IPC High Density)
footprint LT-UFD-28_M (QFN, 28-Leads, Body 5.1x4.1mm, Pitch 0.5mm, Thermal Pad 3.65x2.65mm, IPC Low Density)
part A pins: 1 SENSE1- (in) "Current Sense Comparator Inputs. The (-) inputs to the current comparators are connected to the outputs.", 2 TK/SS1 (in) "Output Voltage Tracking and Soft-Start Inputs. When one particular channel is configured to be the master of two channels, a capacitor to ground at this pin sets the ramp rate for the master channel’s output voltage. Whe(See Datasheet)", 3 ITH1 "Current Control Thresholds and Error Amplifier Compensation Points. Each associated channels’ current comparator tripping threshold increases with its ITH control voltage.", 4 VFB1 (in) "Error Amplifier Feedback Inputs. These pins receive the remotely sensed feedback voltages for each channel from external resistive dividers across the outputs.", 21 BG1 (out) "Bottom Gate Driver Outputs. These pins drive the gates of the bottom N-channel MOSFETs between PGND and INTVCC.", 22 BOOST1 "Boosted Floating Driver Supplies. The (+) terminal of the booststrap capacitors connect to these pins. These pins swing from a diode voltage drop below INTVCC up to VIN + INTVCC.", 23 TG1 (out) "Top Gate Driver Outputs. These are the outputs of floating drivers with a voltage swing equal to INTVCC superimposed on the switch nodes voltages.", 24 SW1 "Switch Node Connections to Inductors. Voltage swing at these pins is from a Schottky diode (external) voltage drop below ground to VIN.", 27 RUN1 (in) "Run Control Inputs. A voltage above 1.2V on either pin turns on the IC. However, forcing either of these pins below 1.2V causes the IC to shut down the circuitry required for that particular channel. There are 1uA pull-up (See Datasheet)", 28 SENSE1+ (in) "Current Sense Comparator Inputs. The (+) inputs to the current comparators are normally connected to DCR sensing networks or current sensing resistors."
part B pins: 5 VFB2 (in) "Error Amplifier Feedback Inputs. These pins receive the remotely sensed feedback voltages for each channel from external resistive dividers across the outputs.", 6 ITH2 "Current Control Thresholds and Error Amplifier Compensation Points. Each associated channels’ current comparator tripping threshold increases with its ITH control voltage.", 7 TK/SS2 (in) "Output Voltage Tracking and Soft-Start Inputs. When one particular channel is configured to be the master of two channels, a capacitor to ground at this pin sets the ramp rate for the master channel’s output voltage. Whe(See Datasheet)", 8 SENSE2- (in) "Current Sense Comparator Inputs. The (-) inputs to the current comparators are connected to the outputs.", 9 SENSE2+ (in) "Current Sense Comparator Inputs. The (+) inputs to the current comparators are normally connected to DCR sensing networks or current sensing resistors.", 10 RUN2 (in) "Run Control Inputs. A voltage above 1.2V on either pin turns on the IC. However, forcing either of these pins below 1.2V causes the IC to shut down the circuitry required for that particular channel. There are 1uA pull-up (See Datasheet)", 14 SW2 "Switch Node Connections to Inductors. Voltage swing at these pins is from a Schottky diode (external) voltage drop below ground to VIN.", 15 TG2 (out) "Top Gate Driver Outputs. These are the outputs of floating drivers with a voltage swing equal to INTVCC superimposed on the switch nodes voltages.", 16 BOOST2 "Boosted Floating Driver Supplies. The (+) terminal of the booststrap capacitors connect to these pins. These pins swing from a diode voltage drop below INTVCC up to VIN + INTVCC.", 18 BG2 (out) "Bottom Gate Driver Outputs. These pins drive the gates of the bottom N-channel MOSFETs between PGND and INTVCC."
part C pins: 11 ILIM (in) "Current Comparator Sense Voltage Range Inputs. This pin is to be programmed to SGND, FLOAT or INTVCC to set the maximum current sense threshold to three different levels for each comparator. The current limit default value (See Datasheet)", 12 EXTVCC (power) "External Power Input to an Internal Switch Connected to INTVCC. This switch closes and supplies the IC power, bypassing the internal low dropout regulator, whenever EXTVCC is higher than 4.7V. Do not exceed 6V on this pin.", 13 PGOOD (oc) "Power Good Indicator Output. Open drain logic out that is pulled to ground when either channel output exceeds +/-10% regulation windows, after the internal 20us power bad mask timer expires.", 17 PGND (power) "Power Ground Pin. Connect this pin closely to the sources of the bottom N-channel MOSFETs, the (-) terminal of CVCC and the (-) terminal of CIN.", 19 INTVCC (power) "Internal 5V Regulator Output. The control circuits are powered from this voltage. Decouple this pin to PGND with a minimum of 4.7uF low ESR tantalum or ceramic capacitor.", 20 VIN (power) "Main Input Supply. Decouple this pin to PGND with a capacitor (0.1uF to 1uF).", 25 MODE/PLLIN (in) "Forced Continuous Mode, Burst Mode Operation, or Pulse-Skipping Mode Selection Pin and External Synchronization Input to Phase Detector Pin. Connect this pin to SGND to force both channels in continuous mode of operation. (See Datasheet)", 26 FREQ (in) "There is a precision 10uA current flowing out of this pin. Connect a resistor to ground set the controllers’ operating frequency. Alternatively, this pin can be driven with a DC voltage to vary the frequency of th(See Datasheet)", 29 EP (power) "Signal Ground. Must be soldered to PCB, providing a local ground for the control components of the IC, and be tied to the PGND pin under the IC."

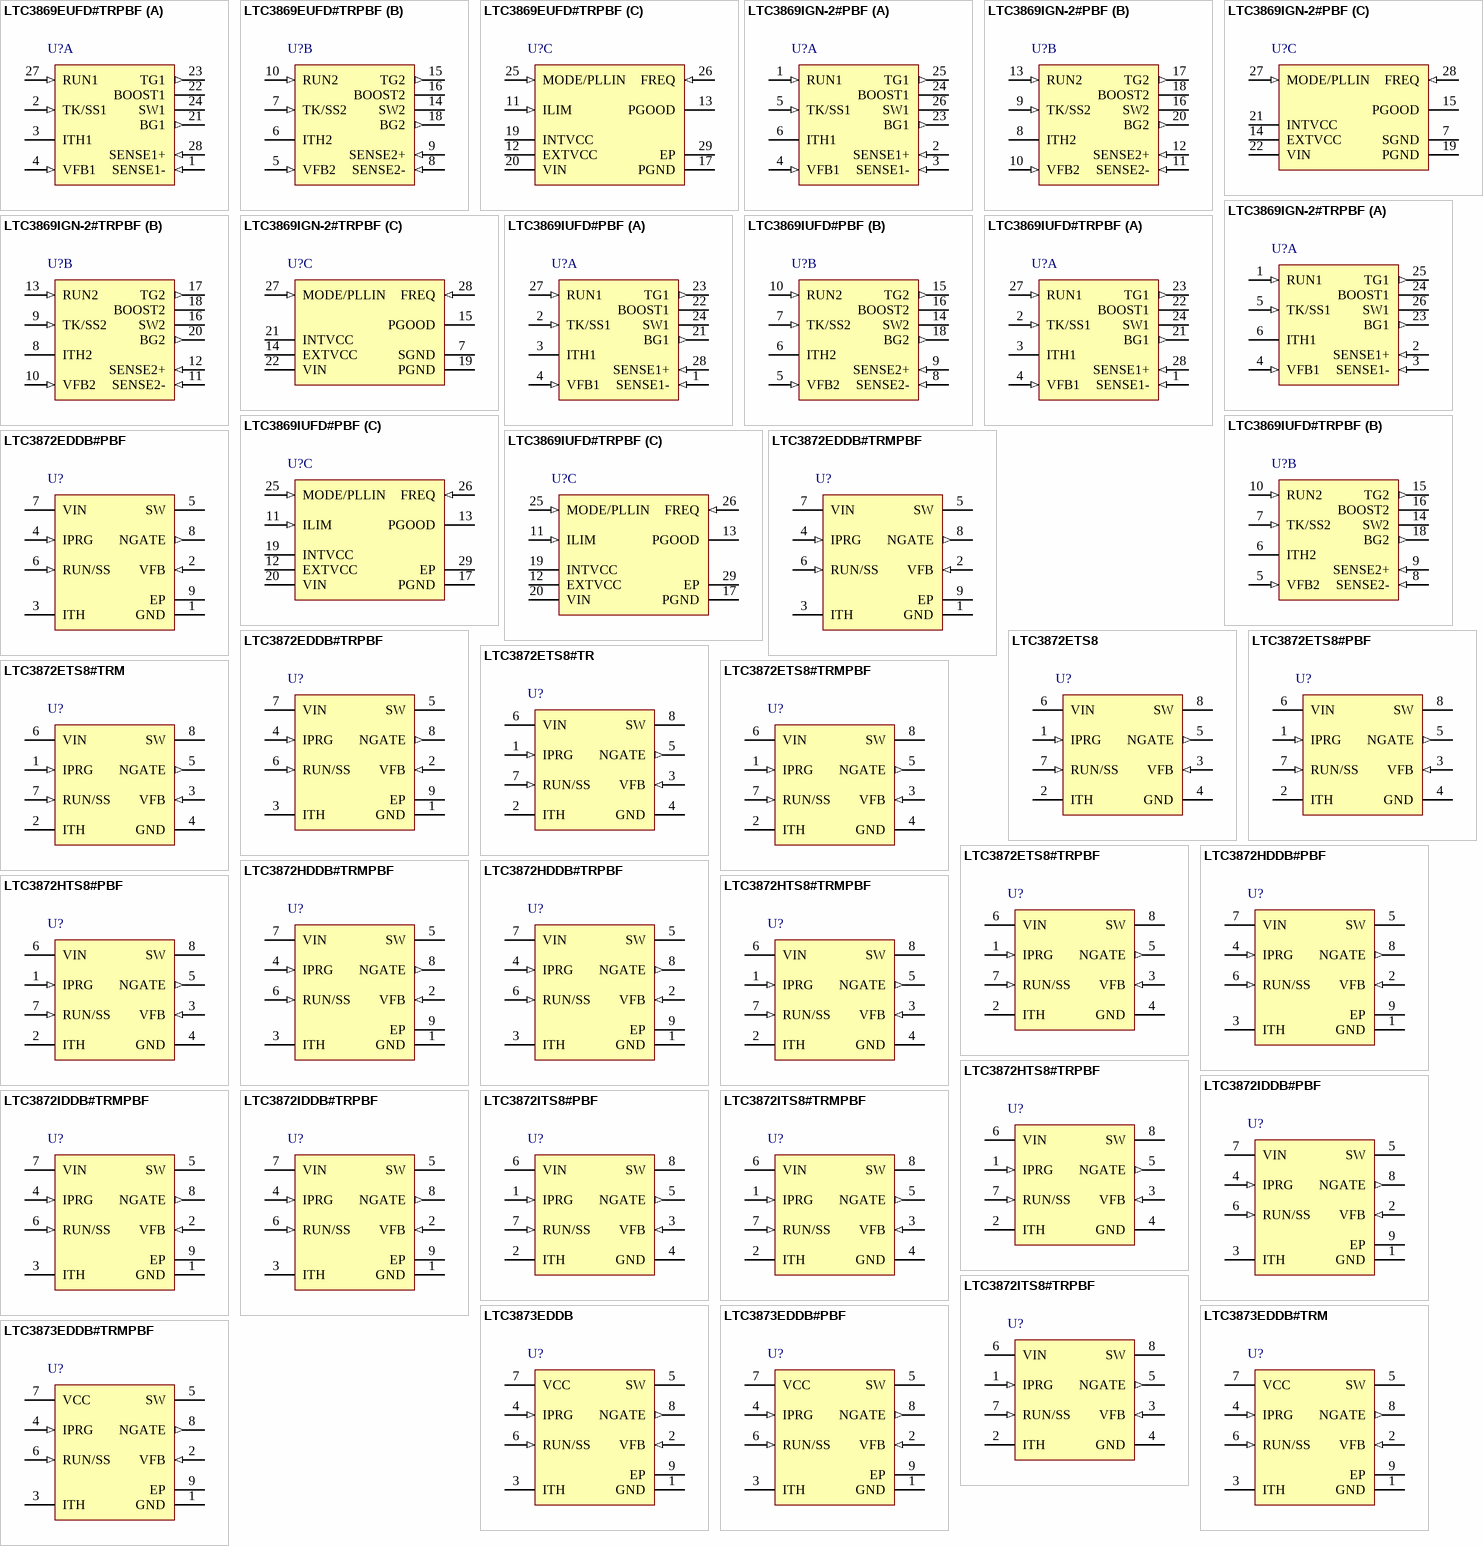
[diagram p109: symbols LTC3869EUFD#TRPBF to LTC3873EDDB#TRMPBF]

## LTC3869EUFD#TRPBF
designator U?
Dual, 2-Phase Synchronous Step-Down DC/DC Controller, 28-pin QFN (UFD-28), -40 to 125 degC, Pb-Free, Tape and Reel; Manufacturer: Linear Technology; PartNumber: LTC3869EUFD#TRPBF; Number of Outputs: 2; PackageReference: UFD-28; PackageDescription: 28-Pin Plastic QFN, Body 5 x 4 mm, Pitch 0.5 mm; Supplier 1: Digi-Key; Supplier Part Number 1: LTC3869EUFD#TRPBF-ND; RoHS: TRUE; Code_JEDEC: MO-220
footprint LT-UFD-28_N (QFN, 28-Leads, Body 5.1x4.1mm, Pitch 0.5mm, Thermal Pad 3.65x2.65mm, IPC Medium Density)
footprint LT-UFD-28_L (QFN, 28-Leads, Body 5.1x4.1mm, Pitch 0.5mm, Thermal Pad 3.65x2.65mm, IPC High Density)
footprint LT-UFD-28_M (QFN, 28-Leads, Body 5.1x4.1mm, Pitch 0.5mm, Thermal Pad 3.65x2.65mm, IPC Low Density)
part A pins: 1 SENSE1- (in) "Current Sense Comparator Inputs. The (-) inputs to the current comparators are connected to the outputs.", 2 TK/SS1 (in) "Output Voltage Tracking and Soft-Start Inputs. When one particular channel is configured to be the master of two channels, a capacitor to ground at this pin sets the ramp rate for the master channel’s output voltage. Whe(See Datasheet)", 3 ITH1 "Current Control Thresholds and Error Amplifier Compensation Points. Each associated channels’ current comparator tripping threshold increases with its ITH control voltage.", 4 VFB1 (in) "Error Amplifier Feedback Inputs. These pins receive the remotely sensed feedback voltages for each channel from external resistive dividers across the outputs.", 21 BG1 (out) "Bottom Gate Driver Outputs. These pins drive the gates of the bottom N-channel MOSFETs between PGND and INTVCC.", 22 BOOST1 "Boosted Floating Driver Supplies. The (+) terminal of the booststrap capacitors connect to these pins. These pins swing from a diode voltage drop below INTVCC up to VIN + INTVCC.", 23 TG1 (out) "Top Gate Driver Outputs. These are the outputs of floating drivers with a voltage swing equal to INTVCC superimposed on the switch nodes voltages.", 24 SW1 "Switch Node Connections to Inductors. Voltage swing at these pins is from a Schottky diode (external) voltage drop below ground to VIN.", 27 RUN1 (in) "Run Control Inputs. A voltage above 1.2V on either pin turns on the IC. However, forcing either of these pins below 1.2V causes the IC to shut down the circuitry required for that particular channel. There are 1uA pull-up (See Datasheet)", 28 SENSE1+ (in) "Current Sense Comparator Inputs. The (+) inputs to the current comparators are normally connected to DCR sensing networks or current sensing resistors."
part B pins: 5 VFB2 (in) "Error Amplifier Feedback Inputs. These pins receive the remotely sensed feedback voltages for each channel from external resistive dividers across the outputs.", 6 ITH2 "Current Control Thresholds and Error Amplifier Compensation Points. Each associated channels’ current comparator tripping threshold increases with its ITH control voltage.", 7 TK/SS2 (in) "Output Voltage Tracking and Soft-Start Inputs. When one particular channel is configured to be the master of two channels, a capacitor to ground at this pin sets the ramp rate for the master channel’s output voltage. Whe(See Datasheet)", 8 SENSE2- (in) "Current Sense Comparator Inputs. The (-) inputs to the current comparators are connected to the outputs.", 9 SENSE2+ (in) "Current Sense Comparator Inputs. The (+) inputs to the current comparators are normally connected to DCR sensing networks or current sensing resistors.", 10 RUN2 (in) "Run Control Inputs. A voltage above 1.2V on either pin turns on the IC. However, forcing either of these pins below 1.2V causes the IC to shut down the circuitry required for that particular channel. There are 1uA pull-up (See Datasheet)", 14 SW2 "Switch Node Connections to Inductors. Voltage swing at these pins is from a Schottky diode (external) voltage drop below ground to VIN.", 15 TG2 (out) "Top Gate Driver Outputs. These are the outputs of floating drivers with a voltage swing equal to INTVCC superimposed on the switch nodes voltages.", 16 BOOST2 "Boosted Floating Driver Supplies. The (+) terminal of the booststrap capacitors connect to these pins. These pins swing from a diode voltage drop below INTVCC up to VIN + INTVCC.", 18 BG2 (out) "Bottom Gate Driver Outputs. These pins drive the gates of the bottom N-channel MOSFETs between PGND and INTVCC."
part C pins: 11 ILIM (in) "Current Comparator Sense Voltage Range Inputs. This pin is to be programmed to SGND, FLOAT or INTVCC to set the maximum current sense threshold to three different levels for each comparator. The current limit default value (See Datasheet)", 12 EXTVCC (power) "External Power Input to an Internal Switch Connected to INTVCC. This switch closes and supplies the IC power, bypassing the internal low dropout regulator, whenever EXTVCC is higher than 4.7V. Do not exceed 6V on this pin.", 13 PGOOD (oc) "Power Good Indicator Output. Open drain logic out that is pulled to ground when either channel output exceeds +/-10% regulation windows, after the internal 20us power bad mask timer expires.", 17 PGND (power) "Power Ground Pin. Connect this pin closely to the sources of the bottom N-channel MOSFETs, the (-) terminal of CVCC and the (-) terminal of CIN.", 19 INTVCC (power) "Internal 5V Regulator Output. The control circuits are powered from this voltage. Decouple this pin to PGND with a minimum of 4.7uF low ESR tantalum or ceramic capacitor.", 20 VIN (power) "Main Input Supply. Decouple this pin to PGND with a capacitor (0.1uF to 1uF).", 25 MODE/PLLIN (in) "Forced Continuous Mode, Burst Mode Operation, or Pulse-Skipping Mode Selection Pin and External Synchronization Input to Phase Detector Pin. Connect this pin to SGND to force both channels in continuous mode of operation. (See Datasheet)", 26 FREQ (in) "There is a precision 10uA current flowing out of this pin. Connect a resistor to ground set the controllers’ operating frequency. Alternatively, this pin can be driven with a DC voltage to vary the frequency of th(See Datasheet)", 29 EP (power) "Signal Ground. Must be soldered to PCB, providing a local ground for the control components of the IC, and be tied to the PGND pin under the IC."